# Altium schematic symbol library TPS25980.Schlib: 1 symbol
Pins are listed as number, name and electrical type; pins without a type are passive.

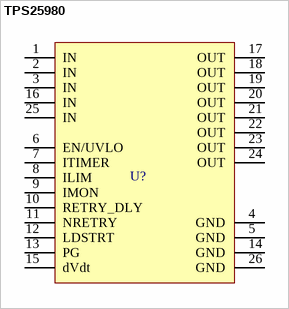
[diagram p0: symbol TPS25980]

## TPS25980
designator U?
TPS25980: 2.7- 24 V, 8 A, 3 mΩ Smart eFuse - Integrated Hot-swap Protection
pins: 1 IN (power), 2 IN (power), 3 IN (power), 4 GND (power), 5 GND (power), 6 EN/UVLO, 7 ITIMER, 8 ILIM, 9 IMON, 10 RETRY_DLY, 11 NRETRY, 12 LDSTRT, 13 PG, 14 GND (power), 15 dVdt, 16 IN (power), 17 OUT (power), 18 OUT (power), 19 OUT (power), 20 OUT (power), 21 OUT (power), 22 OUT (power), 23 OUT (power), 24 OUT (power), 25 IN (power), 26 GND (power)